# Altium footprint library TAG-ICD.PcbLib: 1 footprints
Each footprint in its own frame and in the unit in brackets; x right, y up, seen from the top. Pads: shape width x height; smd on the part's side, far side on the other; paste and mask are expansions set on the pad; w line width, h text height; cw(c..) or ccw(c..) is an arc to the next point about the centre after c.
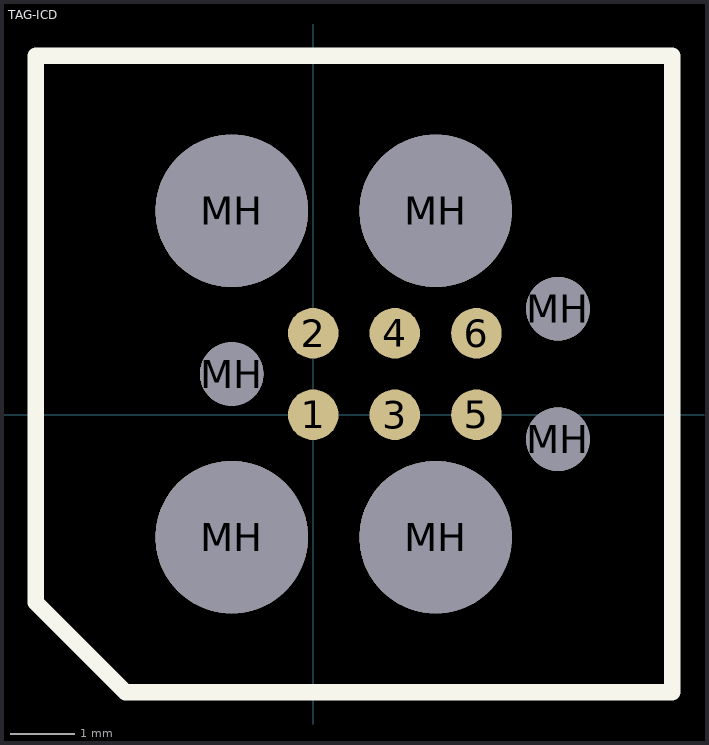
[diagram p0: the footprint, top view; thin cyan lines are the x and y axes]

## TAG-ICD [mil]
pads (13):
  round 31 smd paste-10 mask+1: 1(0,0) 2(0,50) 3(50,0) 4(50,50) 5(100,0) 6(100,50)
  round 93.5 hole 93.5 unplated: MH(-50,-75) MH(-50,125) MH(75,-75) MH(75,125)
  round 39 hole 39 unplated: MH(-50,25) MH(150,-15) MH(150,65)
Top Overlay:
  lines w10: -170,-115 -170,220 220,220 220,-170 -115,-170 -170,-115